# EAGLE library part THS4012 (library components)
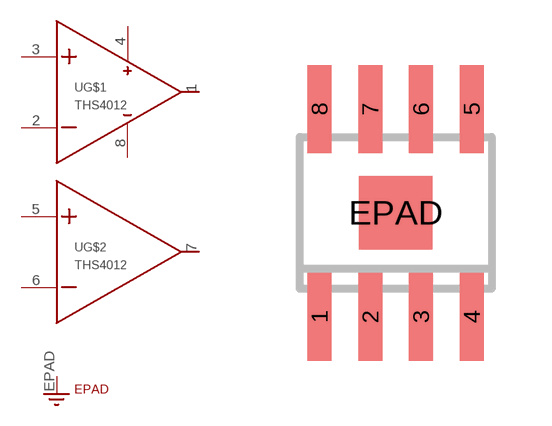
[diagram p8: symbol with the pads of SO-08; footprint SO-08]

Designator prefix -; gates G$1=THS401X G$2=THS401X G$3=THS401X_POWER G$4=EPAD

## THS4012  [SO-08]
1  G$1:OUT
2  G$1:IN-
3  G$1:IN+
4  G$3:VCC+
5  G$2:IN+
6  G$2:IN-
7  G$2:OUT
8  G$3:VCC-
EPAD  G$4:EPAD

## Footprint SO-08 (pad centres in mm)
Small Outline Narrow Plastic Gull Wing 150-mil body, package type SN
smd 0.6 x 2.2: 1 -1.905,-2.6; 2 -0.635,-2.6; 3 0.635,-2.6; 4 1.905,-2.6; 5 1.905,2.6; 6 0.635,2.6; 7 -0.635,2.6; 8 -1.905,2.6
smd 1.829 x 1.829: EPAD 0,0